# Altium integrated library NSC ADC.IntLib: 208 symbols (part 1 of 7)
Pins are listed as number, name and electrical type; pins without a type are passive.

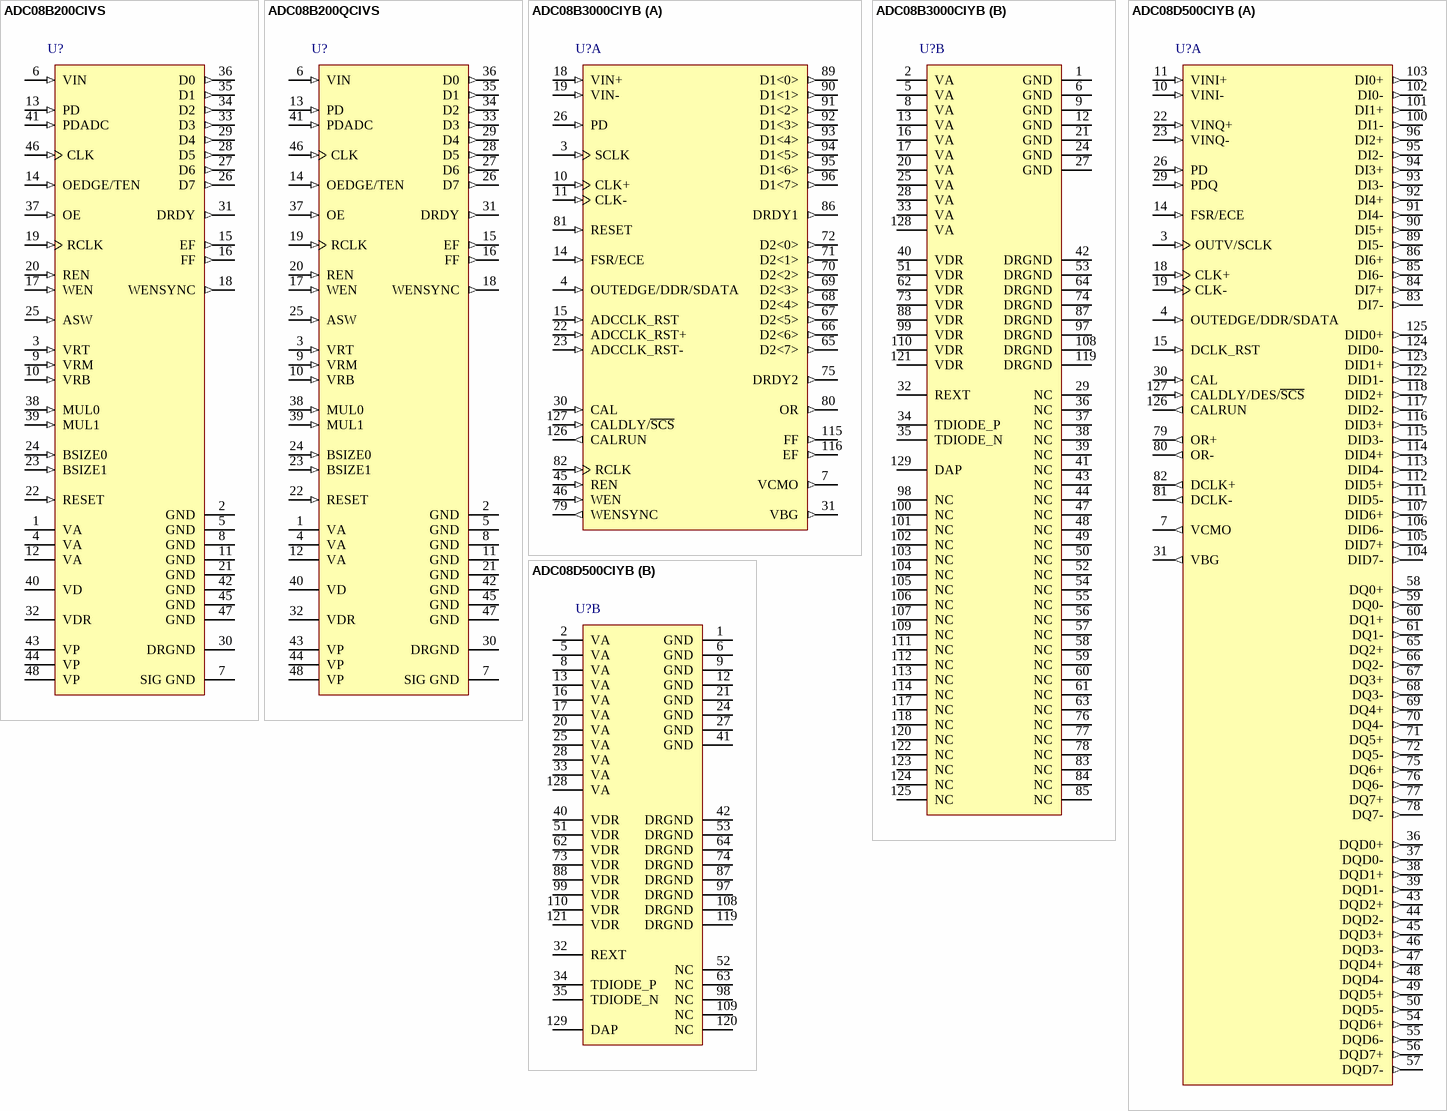
[diagram p0: symbols ADC08B200CIVS to ADC08D500CIYB]

## ADC08B200CIVS
designator U?
8-Bit, 200 MSPS A/D Converter with Capture Buffer; PartNumber: ADC08B200CIVS; Manufacturer: National Semiconductor; CompType: ADC IC; PackageTopMarking: NSUZXYTT*DC08B200*CIVS; PowerWise: N; Published: 4-Dec-2008; DatasheetVersion: May-2007; PackageVersion: revA, Apr-2000; PackageReference: VBC48A; Publisher: Altium Limited; PackageDescription: TQFP, Jedec Metric, 7 x 7 x 1mm, 48 Lead, 0.5mm Pitch; RoHS: Y; PinCount: 48; DigiKeyPartNumber: ADC08B200CIVS-ND; Code_JEDEC: MS-026-ABC; ComponentLink1Description: ADC08B200 Datasheet; ComponentLink1URL: http://www.national.com/ds/AD/ADC08B200.pdf; ComponentLink2Description: ADC08B200 Web Page; ComponentLink2URL: http://www.national.com/pf/AD/ADC08B200.html; ComponentLink3Description: VBC48A Package Page; ComponentLink3URL: http://www.national.com/packaging/folders/vbc48a.html
footprint VBC48A_N (Thin QFP, 48-Leads, Body 7x7mm, Pitch 0.5mm, IPC Medium Density)
footprint VBC48A_L (Thin QFP, 48-Leads, Body 7x7mm, Pitch 0.5mm, IPC High Density)
footprint VBC48A_M (Thin QFP, 48-Leads, Body 7x7mm, Pitch 0.5mm, IPC Low Density)
pins: 1 VA (power), 2 GND (power), 3 VRT (in), 4 VA (power), 5 GND (power), 6 VIN (in), 7 SIG GND (power), 8 GND (power), 9 VRM (in), 10 VRB (in), 11 GND (power), 12 VA (power), 13 PD (in), 14 OEDGE/TEN (in), 15 EF (out), 16 FF (out), 17 WEN (in), 18 WENSYNC (out), 19 RCLK (in), 20 REN (in), 21 GND (power), 22 RESET (in), 23 BSIZE1 (in), 24 BSIZE0 (in), 25 ASW (in), 26 D7 (out), 27 D6 (out), 28 D5 (out), 29 D4 (out), 30 DRGND (power), 31 DRDY (out), 32 VDR (power), 33 D3 (out), 34 D2 (out), 35 D1 (out), 36 D0 (out), 37 OE (in), 38 MUL0 (in), 39 MUL1 (in), 40 VD (power), 41 PDADC (in), 42 GND (power), 43 VP (power), 44 VP (power), 45 GND (power), 46 CLK (in), 47 GND (power), 48 VP (power)

## ADC08B200QCIVS
designator U?
8-Bit, 200 MSPS A/D Converter with Capture Buffer; PartNumber: ADC08B200QCIVS; Manufacturer: National Semiconductor; CompType: ADC IC; PackageTopMarking: NSUZXYTT*DC08B200*QCIVS; PowerWise: N; Published: 4-Dec-2008; DatasheetVersion: Sep-2007; PackageVersion: revA, Apr-2000; PackageReference: VBC48A; Publisher: Altium Limited; PackageDescription: TQFP, Jedec Metric, 7 x 7 x 1mm, 48 Lead, 0.5mm Pitch; RoHS: Y; PinCount: 48; Code_JEDEC: MS-026-ABC; ComponentLink1Description: ADC08B200 Datasheet; ComponentLink1URL: http://www.national.com/ds/AD/ADC08B200.pdf; ComponentLink2Description: ADC08B200 Web Page; ComponentLink2URL: http://www.national.com/pf/AD/ADC08B200.html; ComponentLink3Description: VBC48A Package Page; ComponentLink3URL: http://www.national.com/packaging/folders/vbc48a.html
footprint VBC48A_N (Thin QFP, 48-Leads, Body 7x7mm, Pitch 0.5mm, IPC Medium Density)
footprint VBC48A_L (Thin QFP, 48-Leads, Body 7x7mm, Pitch 0.5mm, IPC High Density)
footprint VBC48A_M (Thin QFP, 48-Leads, Body 7x7mm, Pitch 0.5mm, IPC Low Density)
pins: 1 VA (power), 2 GND (power), 3 VRT (in), 4 VA (power), 5 GND (power), 6 VIN (in), 7 SIG GND (power), 8 GND (power), 9 VRM (in), 10 VRB (in), 11 GND (power), 12 VA (power), 13 PD (in), 14 OEDGE/TEN (in), 15 EF (out), 16 FF (out), 17 WEN (in), 18 WENSYNC (out), 19 RCLK (in), 20 REN (in), 21 GND (power), 22 RESET (in), 23 BSIZE1 (in), 24 BSIZE0 (in), 25 ASW (in), 26 D7 (out), 27 D6 (out), 28 D5 (out), 29 D4 (out), 30 DRGND (power), 31 DRDY (out), 32 VDR (power), 33 D3 (out), 34 D2 (out), 35 D1 (out), 36 D0 (out), 37 OE (in), 38 MUL0 (in), 39 MUL1 (in), 40 VD (power), 41 PDADC (in), 42 GND (power), 43 VP (power), 44 VP (power), 45 GND (power), 46 CLK (in), 47 GND (power), 48 VP (power)

## ADC08B3000CIYB
designator U?
8-Bit, 3 GSPS, High Performance, Low Power A/D Converter with 4K Buffer; PartNumber: ADC08B3000CIYB; Manufacturer: National Semiconductor; CompType: ADC IC; PackageTopMarking: NSUZXYYTTE#*ADC08B3000*CIYB; PowerWise: Y; Published: 4-Dec-2008; DatasheetVersion: Dec-2007; PackageVersion: revB, Aug-2006; PackageReference: VNX128A; Publisher: Altium Limited; PackageDescription: LQFP, 20 x 20 x 1.4mm, 128 Lead, 0.5mm Pitch, Exposed Pad; RoHS: O; PinCount: 128; DigiKeyPartNumber: ADC08B3000CIYB-ND; Code_JEDEC: MS-026-BFB; ComponentLink1Description: ADC08B3000 Datasheet; ComponentLink1URL: http://www.national.com/ds/AD/ADC08B3000.pdf; ComponentLink2Description: ADC08B3000 Web Page; ComponentLink2URL: http://www.national.com/pf/AD/ADC08B3000.html; ComponentLink3Description: VNX128A Package Page; ComponentLink3URL: http://www.national.com/packaging/folders/vnx128a.html
footprint VNX128A_N (Thin QFP, 128-Leads, Body 20x20mm, Pitch 0.5mm, Exposed Pad, IPC Medium Density)
footprint VNX128A_L (Thin QFP, 128-Leads, Body 20x20mm, Pitch 0.5mm, Exposed Pad, IPC High Density)
footprint VNX128A_M (Thin QFP, 128-Leads, Body 20x20mm, Pitch 0.5mm, Exposed Pad, IPC Low Density)
part A pins: 3 SCLK (in), 4 OUTEDGE/DDR/SDATA (in), 7 VCMO (out), 10 CLK+ (in), 11 CLK- (in), 14 FSR/ECE (in), 15 ADCCLK_RST (in), 18 VIN+ (in), 19 VIN- (in), 22 ADCCLK_RST+ (in), 23 ADCCLK_RST- (in), 26 PD (in), 30 CAL (in), 31 VBG (out), 45 REN (in), 46 WEN (in), 65 D2<7> (out), 66 D2<6> (out), 67 D2<5> (out), 68 D2<4> (out), 69 D2<3> (out), 70 D2<2> (out), 71 D2<1> (out), 72 D2<0> (out), 75 DRDY2 (out), 79 WENSYNC (out), 80 OR (out), 81 RESET (in), 82 RCLK (in), 86 DRDY1 (out), 89 D1<0> (out), 90 D1<1> (out), 91 D1<2> (out), 92 D1<3> (out), 93 D1<4> (out), 94 D1<5> (out), 95 D1<6> (out), 96 D1<7> (out), 115 FF (out), 116 EF (out), 126 CALRUN (out), 127 CALDLY/~{SCS} (in)
part B pins: 1 GND (power), 2 VA (power), 5 VA (power), 6 GND (power), 8 VA (power), 9 GND (power), 12 GND (power), 13 VA (power), 16 VA (power), 17 VA (power), 20 VA (power), 21 GND (power), 24 GND (power), 25 VA (power), 27 GND (power), 28 VA (power), 29 NC, 32 REXT, 33 VA (power), 34 TDIODE_P, 35 TDIODE_N, 36 NC, 37 NC, 38 NC, 39 NC, 40 VDR (power), 41 NC, 42 DRGND (power), 43 NC, 44 NC, 47 NC, 48 NC, 49 NC, 50 NC, 51 VDR (power), 52 NC, 53 DRGND (power), 54 NC, 55 NC, 56 NC, 57 NC, 58 NC, 59 NC, 60 NC, 61 NC, 62 VDR (power), 63 NC, 64 DRGND (power), 73 VDR (power), 74 DRGND (power), 76 NC, 77 NC, 78 NC, 83 NC, 84 NC, 85 NC, 87 DRGND (power), 88 VDR (power), 97 DRGND (power), 98 NC, 99 VDR (power), 100 NC, 101 NC, 102 NC, 103 NC, 104 NC, 105 NC, 106 NC, 107 NC, 108 DRGND (power), 109 NC, 110 VDR (power), 111 NC, 112 NC, 113 NC, 114 NC, 117 NC, 118 NC, 119 DRGND (power), 120 NC, 121 VDR (power), 122 NC, 123 NC, 124 NC, 125 NC, 128 VA (power), 129 DAP (power)

## ADC08D500CIYB
designator U?
High Performance, Low Power, Dual 8-Bit, 500 MSPS A/D Converter; PartNumber: ADC08D500CIYB; Manufacturer: National Semiconductor; CompType: ADC IC; PackageTopMarking: NSUZXYYTTE#*ADC08D500*CIYB; PowerWise: Y; Published: 4-Dec-2008; DatasheetVersion: May-2005; PackageVersion: revB, Aug-2006; PackageReference: VNX128A; Publisher: Altium Limited; PackageDescription: LQFP, 20 x 20 x 1.4mm, 128 Lead, 0.5mm Pitch, Exposed Pad; RoHS: Y; PinCount: 128; DigiKeyPartNumber: ADC08D500CIYB-ND; Code_JEDEC: MS-026-BFB; ComponentLink1Description: ADC08D500 Datasheet; ComponentLink1URL: http://www.national.com/ds/AD/ADC08D500.pdf; ComponentLink2Description: ADC08D500 Web Page; ComponentLink2URL: http://www.national.com/pf/AD/ADC08D500.html; ComponentLink3Description: VNX128A Package Page; ComponentLink3URL: http://www.national.com/packaging/folders/vnx128a.html
footprint VNX128A_N (Thin QFP, 128-Leads, Body 20x20mm, Pitch 0.5mm, Exposed Pad, IPC Medium Density)
footprint VNX128A_L (Thin QFP, 128-Leads, Body 20x20mm, Pitch 0.5mm, Exposed Pad, IPC High Density)
footprint VNX128A_M (Thin QFP, 128-Leads, Body 20x20mm, Pitch 0.5mm, Exposed Pad, IPC Low Density)
part A pins: 3 OUTV/SCLK (in), 4 OUTEDGE/DDR/SDATA (in), 7 VCMO (out), 10 VINI- (in), 11 VINI+ (in), 14 FSR/ECE (in), 15 DCLK_RST (in), 18 CLK+ (in), 19 CLK- (in), 22 VINQ+ (in), 23 VINQ- (in), 26 PD (in), 29 PDQ (in), 30 CAL (in), 31 VBG (out), 36 DQD0+ (out), 37 DQD0- (out), 38 DQD1+ (out), 39 DQD1- (out), 43 DQD2+ (out), 44 DQD2- (out), 45 DQD3+ (out), 46 DQD3- (out), 47 DQD4+ (out), 48 DQD4- (out), 49 DQD5+ (out), 50 DQD5- (out), 54 DQD6+ (out), 55 DQD6- (out), 56 DQD7+ (out), 57 DQD7- (out), 58 DQ0+ (out), 59 DQ0- (out), 60 DQ1+ (out), 61 DQ1- (out), 65 DQ2+ (out), 66 DQ2- (out), 67 DQ3+ (out), 68 DQ3- (out), 69 DQ4+ (out), 70 DQ4- (out), 71 DQ5+ (out), 72 DQ5- (out), 75 DQ6+ (out), 76 DQ6- (out), 77 DQ7+ (out), 78 DQ7- (out), 79 OR+ (out), 80 OR- (out), 81 DCLK- (out), 82 DCLK+ (out), 83 DI7- (out), 84 DI7+ (out), 85 DI6- (out), 86 DI6+ (out), 89 DI5- (out), 90 DI5+ (out), 91 DI4- (out), 92 DI4+ (out), 93 DI3- (out), 94 DI3+ (out), 95 DI2- (out), 96 DI2+ (out), 100 DI1- (out), 101 DI1+ (out), 102 DI0- (out), 103 DI0+ (out), 104 DID7- (out), 105 DID7+ (out), 106 DID6- (out), 107 DID6+ (out), 111 DID5- (out), 112 DID5+ (out), 113 DID4- (out), 114 DID4+ (out), 115 DID3- (out), 116 DID3+ (out), 117 DID2- (out), 118 DID2+ (out), 122 DID1- (out), 123 DID1+ (out), 124 DID0- (out), 125 DID0+ (out), 126 CALRUN (out), 127 CALDLY/DES/~{SCS} (in)
part B pins: 1 GND (power), 2 VA (power), 5 VA (power), 6 GND (power), 8 VA (power), 9 GND (power), 12 GND (power), 13 VA (power), 16 VA (power), 17 VA (power), 20 VA (power), 21 GND (power), 24 GND (power), 25 VA (power), 27 GND (power), 28 VA (power), 32 REXT, 33 VA (power), 34 TDIODE_P, 35 TDIODE_N, 40 VDR (power), 41 GND (power), 42 DRGND (power), 51 VDR (power), 52 NC, 53 DRGND (power), 62 VDR (power), 63 NC, 64 DRGND (power), 73 VDR (power), 74 DRGND (power), 87 DRGND (power), 88 VDR (power), 97 DRGND (power), 98 NC, 99 VDR (power), 108 DRGND (power), 109 NC, 110 VDR (power), 119 DRGND (power), 120 NC, 121 VDR (power), 128 VA (power), 129 DAP (power)

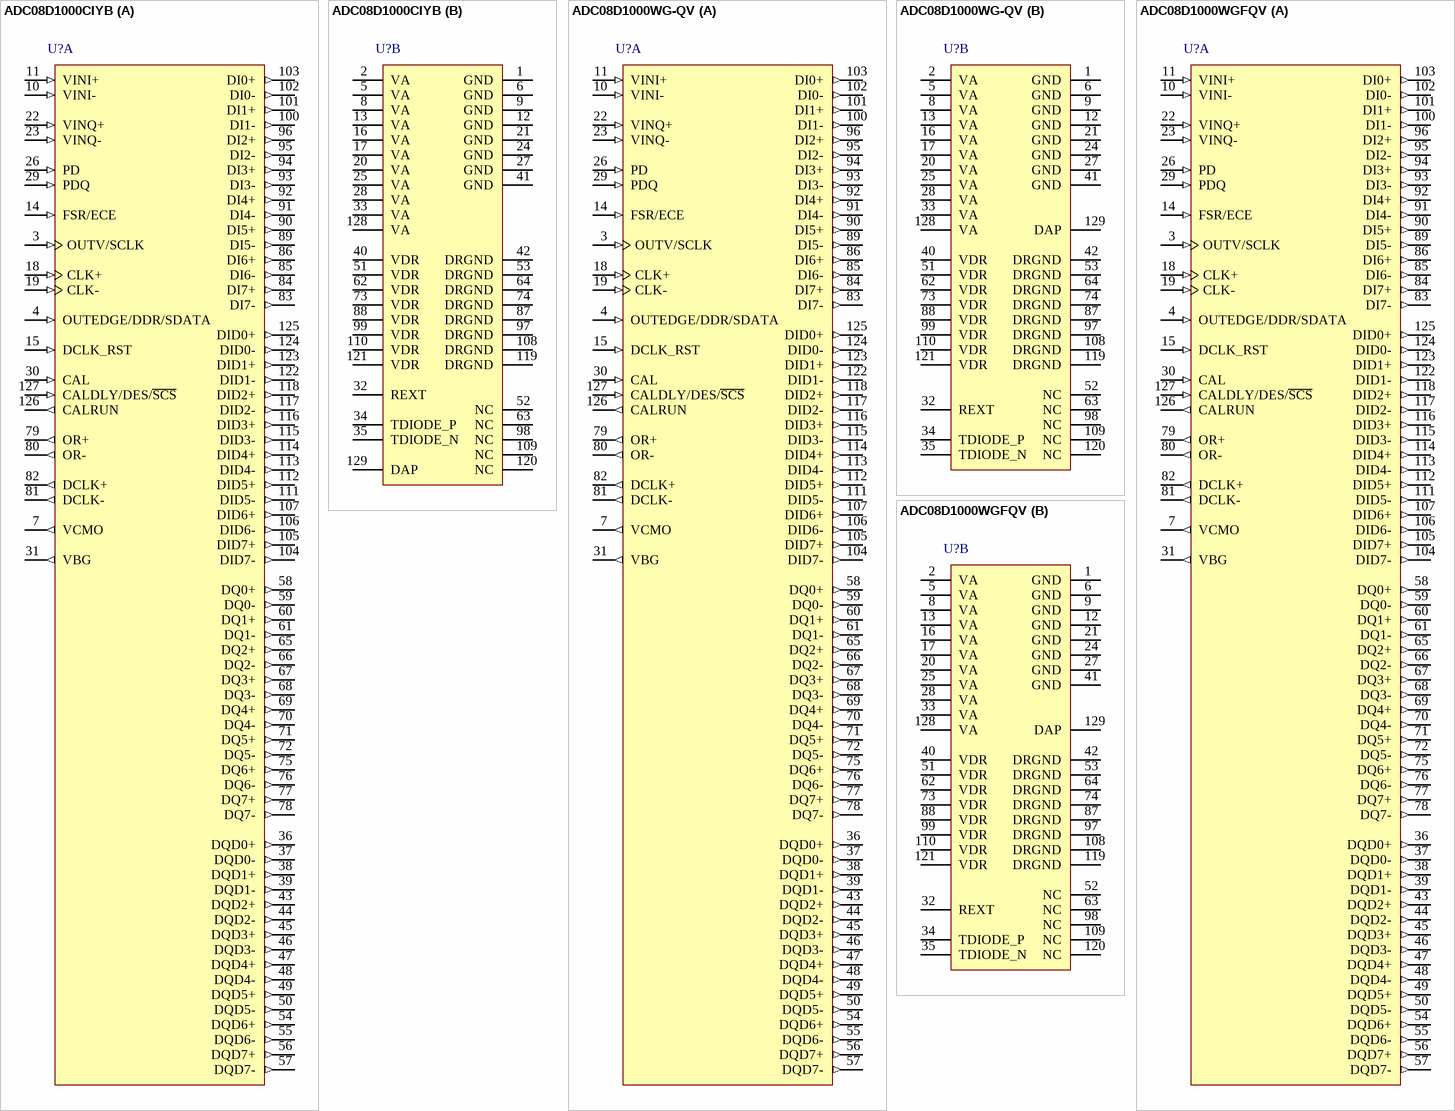
[diagram p1: symbols ADC08D1000CIYB to ADC08D1000WGFQV]

## ADC08D1000CIYB
designator U?
High Performance, Low Power, Dual 8-Bit, 1 GSPS A/D Converter; PartNumber: ADC08D1000CIYB; Manufacturer: National Semiconductor; CompType: ADC IC; PackageTopMarking: NSUZXYYTTE#*ADC08D1000*CIYB; PowerWise: Y; Published: 4-Dec-2008; DatasheetVersion: Feb-2005; PackageVersion: revB, Aug-2006; PackageReference: VNX128A; Publisher: Altium Limited; PackageDescription: LQFP, 20 x 20 x 1.4mm, 128 Lead, 0.5mm Pitch, Exposed Pad; RoHS: O; PinCount: 128; DigiKeyPartNumber: ADC08D1000CIYB-ND; Code_JEDEC: MS-026-BFB; ComponentLink1Description: ADC08D1000 Datasheet; ComponentLink1URL: http://www.national.com/ds/AD/ADC08D1000.pdf; ComponentLink2Description: ADC08D1000 Web Page; ComponentLink2URL: http://www.national.com/pf/AD/ADC08D1000.html; ComponentLink3Description: VNX128A Package Page; ComponentLink3URL: http://www.national.com/packaging/folders/vnx128a.html
footprint VNX128A_N (Thin QFP, 128-Leads, Body 20x20mm, Pitch 0.5mm, Exposed Pad, IPC Medium Density)
footprint VNX128A_L (Thin QFP, 128-Leads, Body 20x20mm, Pitch 0.5mm, Exposed Pad, IPC High Density)
footprint VNX128A_M (Thin QFP, 128-Leads, Body 20x20mm, Pitch 0.5mm, Exposed Pad, IPC Low Density)
part A pins: 3 OUTV/SCLK (in), 4 OUTEDGE/DDR/SDATA (in), 7 VCMO (out), 10 VINI- (in), 11 VINI+ (in), 14 FSR/ECE (in), 15 DCLK_RST (in), 18 CLK+ (in), 19 CLK- (in), 22 VINQ+ (in), 23 VINQ- (in), 26 PD (in), 29 PDQ (in), 30 CAL (in), 31 VBG (out), 36 DQD0+ (out), 37 DQD0- (out), 38 DQD1+ (out), 39 DQD1- (out), 43 DQD2+ (out), 44 DQD2- (out), 45 DQD3+ (out), 46 DQD3- (out), 47 DQD4+ (out), 48 DQD4- (out), 49 DQD5+ (out), 50 DQD5- (out), 54 DQD6+ (out), 55 DQD6- (out), 56 DQD7+ (out), 57 DQD7- (out), 58 DQ0+ (out), 59 DQ0- (out), 60 DQ1+ (out), 61 DQ1- (out), 65 DQ2+ (out), 66 DQ2- (out), 67 DQ3+ (out), 68 DQ3- (out), 69 DQ4+ (out), 70 DQ4- (out), 71 DQ5+ (out), 72 DQ5- (out), 75 DQ6+ (out), 76 DQ6- (out), 77 DQ7+ (out), 78 DQ7- (out), 79 OR+ (out), 80 OR- (out), 81 DCLK- (out), 82 DCLK+ (out), 83 DI7- (out), 84 DI7+ (out), 85 DI6- (out), 86 DI6+ (out), 89 DI5- (out), 90 DI5+ (out), 91 DI4- (out), 92 DI4+ (out), 93 DI3- (out), 94 DI3+ (out), 95 DI2- (out), 96 DI2+ (out), 100 DI1- (out), 101 DI1+ (out), 102 DI0- (out), 103 DI0+ (out), 104 DID7- (out), 105 DID7+ (out), 106 DID6- (out), 107 DID6+ (out), 111 DID5- (out), 112 DID5+ (out), 113 DID4- (out), 114 DID4+ (out), 115 DID3- (out), 116 DID3+ (out), 117 DID2- (out), 118 DID2+ (out), 122 DID1- (out), 123 DID1+ (out), 124 DID0- (out), 125 DID0+ (out), 126 CALRUN (out), 127 CALDLY/DES/~{SCS} (in)
part B pins: 1 GND (power), 2 VA (power), 5 VA (power), 6 GND (power), 8 VA (power), 9 GND (power), 12 GND (power), 13 VA (power), 16 VA (power), 17 VA (power), 20 VA (power), 21 GND (power), 24 GND (power), 25 VA (power), 27 GND (power), 28 VA (power), 32 REXT, 33 VA (power), 34 TDIODE_P, 35 TDIODE_N, 40 VDR (power), 41 GND (power), 42 DRGND (power), 51 VDR (power), 52 NC, 53 DRGND (power), 62 VDR (power), 63 NC, 64 DRGND (power), 73 VDR (power), 74 DRGND (power), 87 DRGND (power), 88 VDR (power), 97 DRGND (power), 98 NC, 99 VDR (power), 108 DRGND (power), 109 NC, 110 VDR (power), 119 DRGND (power), 120 NC, 121 VDR (power), 128 VA (power), 129 DAP (power)

## ADC08D1000WG-QV
designator U?
High Performance, Low Power, Dual 8-Bit, 1 GSPS A/D Converter; PartNumber: ADC08D1000WG-QV; Manufacturer: National Semiconductor; CompType: ADC IC; PackageTopMarking: NSZSSXXYYA*ADC08D1000*WG-QV 5962-*0520601VZC Q; PowerWise: N; Published: 4-Dec-2008; DatasheetVersion: Jan-2007; PackageVersion: revB, Dec-2007; PackageReference: EM128A; Publisher: Altium Limited; PackageDescription: Ceramic Quad Gullwing, .770 x .770 x .118in, 128 Lead, .020in Pitch; RoHS: N; PinCount: 128; ComponentLink1Description: ADC08D1000WG Datasheet; ComponentLink1URL: http://www.national.com/ds/AD/ADC08D1000WG-QV.pdf; ComponentLink2Description: ADC08D1000WG Web Page; ComponentLink2URL: http://www.national.com/pf/AD/ADC08D1000WG-QV.html; ComponentLink3Description: EM128A Package Page; ComponentLink3URL: http://www.national.com/packaging/folders/em128a.html
footprint EM128A_N (CQFP, 128-Leads, Body 19.6x19.6mm; Pitch 0.508mm, Gullwing Leadform, IPC Medium Density)
footprint EM128A_L (CQFP, 128-Leads, Body 19.6x19.6mm; Pitch 0.508mm, Gullwing Leadform, IPC High Density)
footprint EM128A_M (CQFP, 128-Leads, Body 19.6x19.6mm; Pitch 0.508mm, Gullwing Leadform, IPC Low Density)
part A pins: 3 OUTV/SCLK (in), 4 OUTEDGE/DDR/SDATA (in), 7 VCMO (out), 10 VINI- (in), 11 VINI+ (in), 14 FSR/ECE (in), 15 DCLK_RST (in), 18 CLK+ (in), 19 CLK- (in), 22 VINQ+ (in), 23 VINQ- (in), 26 PD (in), 29 PDQ (in), 30 CAL (in), 31 VBG (out), 36 DQD0+ (out), 37 DQD0- (out), 38 DQD1+ (out), 39 DQD1- (out), 43 DQD2+ (out), 44 DQD2- (out), 45 DQD3+ (out), 46 DQD3- (out), 47 DQD4+ (out), 48 DQD4- (out), 49 DQD5+ (out), 50 DQD5- (out), 54 DQD6+ (out), 55 DQD6- (out), 56 DQD7+ (out), 57 DQD7- (out), 58 DQ0+ (out), 59 DQ0- (out), 60 DQ1+ (out), 61 DQ1- (out), 65 DQ2+ (out), 66 DQ2- (out), 67 DQ3+ (out), 68 DQ3- (out), 69 DQ4+ (out), 70 DQ4- (out), 71 DQ5+ (out), 72 DQ5- (out), 75 DQ6+ (out), 76 DQ6- (out), 77 DQ7+ (out), 78 DQ7- (out), 79 OR+ (out), 80 OR- (out), 81 DCLK- (out), 82 DCLK+ (out), 83 DI7- (out), 84 DI7+ (out), 85 DI6- (out), 86 DI6+ (out), 89 DI5- (out), 90 DI5+ (out), 91 DI4- (out), 92 DI4+ (out), 93 DI3- (out), 94 DI3+ (out), 95 DI2- (out), 96 DI2+ (out), 100 DI1- (out), 101 DI1+ (out), 102 DI0- (out), 103 DI0+ (out), 104 DID7- (out), 105 DID7+ (out), 106 DID6- (out), 107 DID6+ (out), 111 DID5- (out), 112 DID5+ (out), 113 DID4- (out), 114 DID4+ (out), 115 DID3- (out), 116 DID3+ (out), 117 DID2- (out), 118 DID2+ (out), 122 DID1- (out), 123 DID1+ (out), 124 DID0- (out), 125 DID0+ (out), 126 CALRUN (out), 127 CALDLY/DES/~{SCS} (in)
part B pins: 1 GND (power), 2 VA (power), 5 VA (power), 6 GND (power), 8 VA (power), 9 GND (power), 12 GND (power), 13 VA (power), 16 VA (power), 17 VA (power), 20 VA (power), 21 GND (power), 24 GND (power), 25 VA (power), 27 GND (power), 28 VA (power), 32 REXT, 33 VA (power), 34 TDIODE_P, 35 TDIODE_N, 40 VDR (power), 41 GND (power), 42 DRGND (power), 51 VDR (power), 52 NC, 53 DRGND (power), 62 VDR (power), 63 NC, 64 DRGND (power), 73 VDR (power), 74 DRGND (power), 87 DRGND (power), 88 VDR (power), 97 DRGND (power), 98 NC, 99 VDR (power), 108 DRGND (power), 109 NC, 110 VDR (power), 119 DRGND (power), 120 NC, 121 VDR (power), 128 VA (power), 129 DAP (power)

## ADC08D1000WGFQV
designator U?
High Performance, Low Power, Dual 8-Bit, 1 GSPS A/D Converter; PartNumber: ADC08D1000WGFQV; Manufacturer: National Semiconductor; CompType: ADC IC; PackageTopMarking: NSZSSXXYYA*ADC08D1000*WGFQV 5962F*0520601VZC Q; PowerWise: N; Published: 4-Dec-2008; DatasheetVersion: Feb-2007; PackageVersion: revB, Dec-2007; PackageReference: EM128A; Publisher: Altium Limited; PackageDescription: Ceramic Quad Gullwing, .770 x .770 x .118in, 128 Lead, .020in Pitch; RoHS: N; PinCount: 128; ComponentLink1Description: ADC08D1000 Datasheet; ComponentLink1URL: http://www.national.com/ds/AD/ADC08D1000.pdf; ComponentLink2Description: ADC08D1000 Web Page; ComponentLink2URL: http://www.national.com/pf/AD/ADC08D1000.html; ComponentLink3Description: EM128A Package Page; ComponentLink3URL: http://www.national.com/packaging/folders/em128a.html
footprint EM128A_N (CQFP, 128-Leads, Body 19.6x19.6mm; Pitch 0.508mm, Gullwing Leadform, IPC Medium Density)
footprint EM128A_L (CQFP, 128-Leads, Body 19.6x19.6mm; Pitch 0.508mm, Gullwing Leadform, IPC High Density)
footprint EM128A_M (CQFP, 128-Leads, Body 19.6x19.6mm; Pitch 0.508mm, Gullwing Leadform, IPC Low Density)
part A pins: 3 OUTV/SCLK (in), 4 OUTEDGE/DDR/SDATA (in), 7 VCMO (out), 10 VINI- (in), 11 VINI+ (in), 14 FSR/ECE (in), 15 DCLK_RST (in), 18 CLK+ (in), 19 CLK- (in), 22 VINQ+ (in), 23 VINQ- (in), 26 PD (in), 29 PDQ (in), 30 CAL (in), 31 VBG (out), 36 DQD0+ (out), 37 DQD0- (out), 38 DQD1+ (out), 39 DQD1- (out), 43 DQD2+ (out), 44 DQD2- (out), 45 DQD3+ (out), 46 DQD3- (out), 47 DQD4+ (out), 48 DQD4- (out), 49 DQD5+ (out), 50 DQD5- (out), 54 DQD6+ (out), 55 DQD6- (out), 56 DQD7+ (out), 57 DQD7- (out), 58 DQ0+ (out), 59 DQ0- (out), 60 DQ1+ (out), 61 DQ1- (out), 65 DQ2+ (out), 66 DQ2- (out), 67 DQ3+ (out), 68 DQ3- (out), 69 DQ4+ (out), 70 DQ4- (out), 71 DQ5+ (out), 72 DQ5- (out), 75 DQ6+ (out), 76 DQ6- (out), 77 DQ7+ (out), 78 DQ7- (out), 79 OR+ (out), 80 OR- (out), 81 DCLK- (out), 82 DCLK+ (out), 83 DI7- (out), 84 DI7+ (out), 85 DI6- (out), 86 DI6+ (out), 89 DI5- (out), 90 DI5+ (out), 91 DI4- (out), 92 DI4+ (out), 93 DI3- (out), 94 DI3+ (out), 95 DI2- (out), 96 DI2+ (out), 100 DI1- (out), 101 DI1+ (out), 102 DI0- (out), 103 DI0+ (out), 104 DID7- (out), 105 DID7+ (out), 106 DID6- (out), 107 DID6+ (out), 111 DID5- (out), 112 DID5+ (out), 113 DID4- (out), 114 DID4+ (out), 115 DID3- (out), 116 DID3+ (out), 117 DID2- (out), 118 DID2+ (out), 122 DID1- (out), 123 DID1+ (out), 124 DID0- (out), 125 DID0+ (out), 126 CALRUN (out), 127 CALDLY/DES/~{SCS} (in)
part B pins: 1 GND (power), 2 VA (power), 5 VA (power), 6 GND (power), 8 VA (power), 9 GND (power), 12 GND (power), 13 VA (power), 16 VA (power), 17 VA (power), 20 VA (power), 21 GND (power), 24 GND (power), 25 VA (power), 27 GND (power), 28 VA (power), 32 REXT, 33 VA (power), 34 TDIODE_P, 35 TDIODE_N, 40 VDR (power), 41 GND (power), 42 DRGND (power), 51 VDR (power), 52 NC, 53 DRGND (power), 62 VDR (power), 63 NC, 64 DRGND (power), 73 VDR (power), 74 DRGND (power), 87 DRGND (power), 88 VDR (power), 97 DRGND (power), 98 NC, 99 VDR (power), 108 DRGND (power), 109 NC, 110 VDR (power), 119 DRGND (power), 120 NC, 121 VDR (power), 128 VA (power), 129 DAP (power)

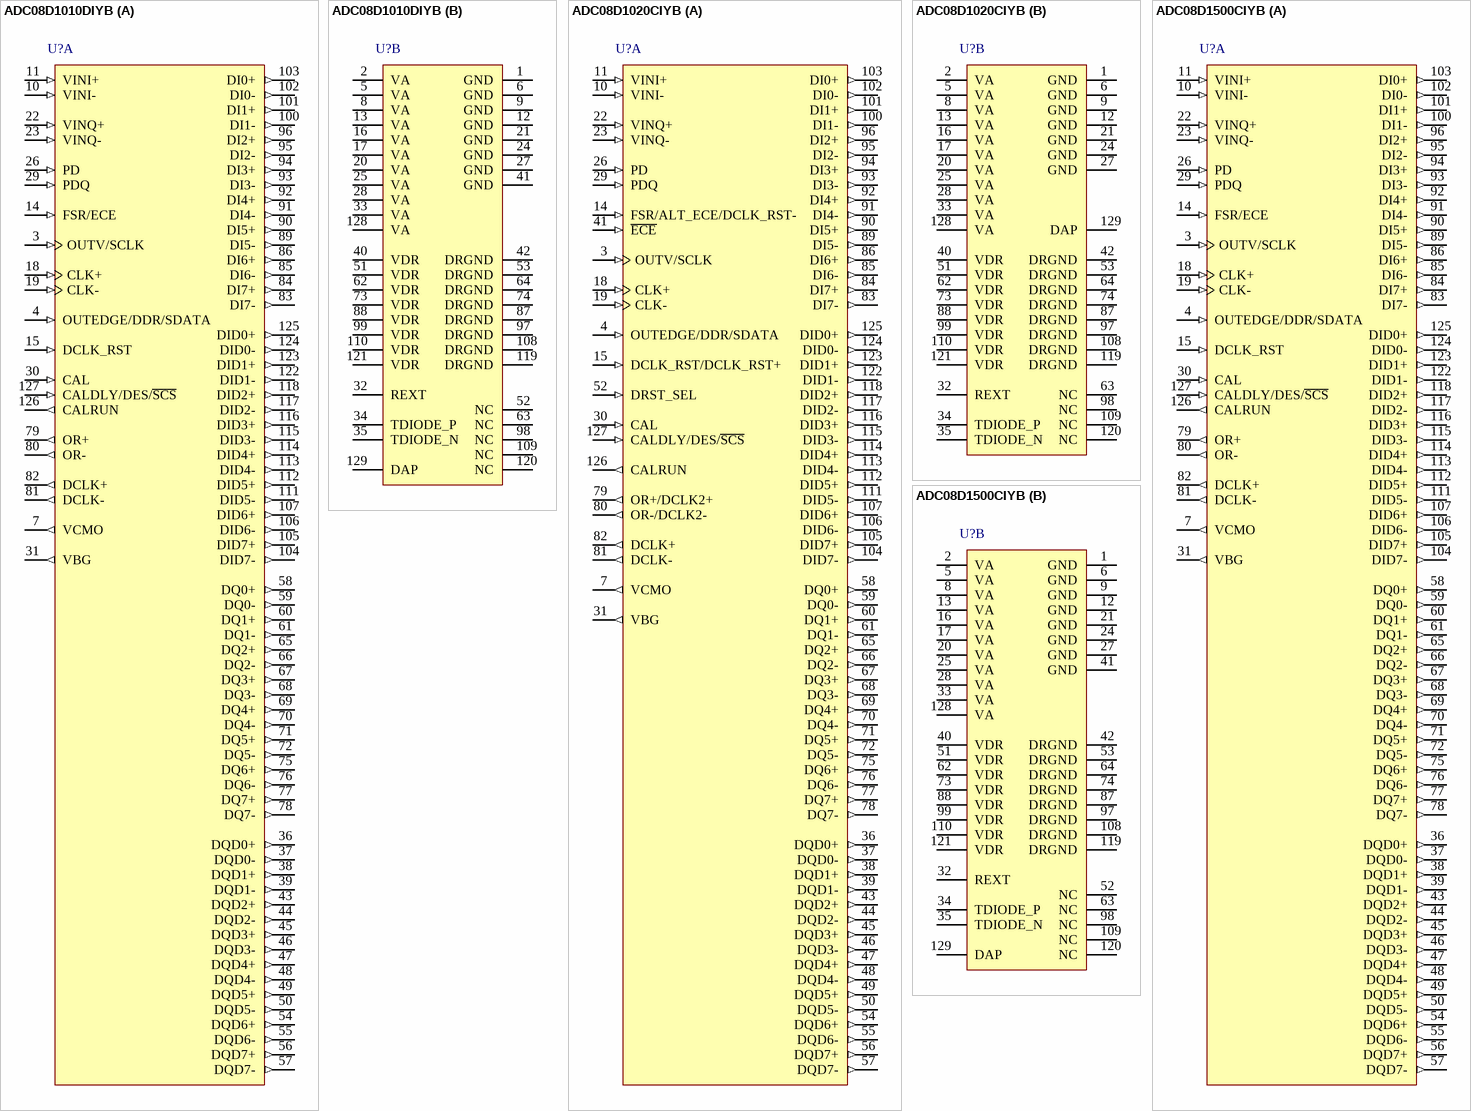
[diagram p2: symbols ADC08D1010DIYB to ADC08D1500CIYB]

## ADC08D1010DIYB
designator U?
High Performance, Low Power, Dual 8-Bit, 1 GSPS A/D Converter; PartNumber: ADC08D1010DIYB; Manufacturer: National Semiconductor; CompType: ADC IC; PackageTopMarking: NSUZXYYTTE#*ADC08D1010*DIYB; Published: 4-Dec-2008; DatasheetVersion: Aug-2008; PackageVersion: revB, Aug-2006; PackageReference: VNX128A; Publisher: Altium Limited; PackageDescription: LQFP, 20 x 20 x 1.4mm, 128 Lead, 0.5mm Pitch, Exposed Pad; RoHS: Y; PinCount: 128; Code_JEDEC: MS-026-BFB; ComponentLink1Description: ADC08D1010 Datasheet; ComponentLink1URL: http://www.national.com/ds/AD/ADC08D1010.pdf; ComponentLink2Description: ADC08D1010 Web Page; ComponentLink2URL: http://www.national.com/pf/AD/ADC08D1010.html; ComponentLink3Description: VNX128A Package Drawing; ComponentLink3URL: http://www.national.com/packaging/folders/vnx128a.html
footprint VNX128A_N (Thin QFP, 128-Leads, Body 20x20mm, Pitch 0.5mm, Exposed Pad, IPC Medium Density)
footprint VNX128A_L (Thin QFP, 128-Leads, Body 20x20mm, Pitch 0.5mm, Exposed Pad, IPC High Density)
footprint VNX128A_M (Thin QFP, 128-Leads, Body 20x20mm, Pitch 0.5mm, Exposed Pad, IPC Low Density)
part A pins: 3 OUTV/SCLK (in), 4 OUTEDGE/DDR/SDATA (in), 7 VCMO (out), 10 VINI- (in), 11 VINI+ (in), 14 FSR/ECE (in), 15 DCLK_RST (in), 18 CLK+ (in), 19 CLK- (in), 22 VINQ+ (in), 23 VINQ- (in), 26 PD (in), 29 PDQ (in), 30 CAL (in), 31 VBG (out), 36 DQD0+ (out), 37 DQD0- (out), 38 DQD1+ (out), 39 DQD1- (out), 43 DQD2+ (out), 44 DQD2- (out), 45 DQD3+ (out), 46 DQD3- (out), 47 DQD4+ (out), 48 DQD4- (out), 49 DQD5+ (out), 50 DQD5- (out), 54 DQD6+ (out), 55 DQD6- (out), 56 DQD7+ (out), 57 DQD7- (out), 58 DQ0+ (out), 59 DQ0- (out), 60 DQ1+ (out), 61 DQ1- (out), 65 DQ2+ (out), 66 DQ2- (out), 67 DQ3+ (out), 68 DQ3- (out), 69 DQ4+ (out), 70 DQ4- (out), 71 DQ5+ (out), 72 DQ5- (out), 75 DQ6+ (out), 76 DQ6- (out), 77 DQ7+ (out), 78 DQ7- (out), 79 OR+ (out), 80 OR- (out), 81 DCLK- (out), 82 DCLK+ (out), 83 DI7- (out), 84 DI7+ (out), 85 DI6- (out), 86 DI6+ (out), 89 DI5- (out), 90 DI5+ (out), 91 DI4- (out), 92 DI4+ (out), 93 DI3- (out), 94 DI3+ (out), 95 DI2- (out), 96 DI2+ (out), 100 DI1- (out), 101 DI1+ (out), 102 DI0- (out), 103 DI0+ (out), 104 DID7- (out), 105 DID7+ (out), 106 DID6- (out), 107 DID6+ (out), 111 DID5- (out), 112 DID5+ (out), 113 DID4- (out), 114 DID4+ (out), 115 DID3- (out), 116 DID3+ (out), 117 DID2- (out), 118 DID2+ (out), 122 DID1- (out), 123 DID1+ (out), 124 DID0- (out), 125 DID0+ (out), 126 CALRUN (out), 127 CALDLY/DES/~{SCS} (in)
part B pins: 1 GND (power), 2 VA (power), 5 VA (power), 6 GND (power), 8 VA (power), 9 GND (power), 12 GND (power), 13 VA (power), 16 VA (power), 17 VA (power), 20 VA (power), 21 GND (power), 24 GND (power), 25 VA (power), 27 GND (power), 28 VA (power), 32 REXT, 33 VA (power), 34 TDIODE_P, 35 TDIODE_N, 40 VDR (power), 41 GND (power), 42 DRGND (power), 51 VDR (power), 52 NC, 53 DRGND (power), 62 VDR (power), 63 NC, 64 DRGND (power), 73 VDR (power), 74 DRGND (power), 87 DRGND (power), 88 VDR (power), 97 DRGND (power), 98 NC, 99 VDR (power), 108 DRGND (power), 109 NC, 110 VDR (power), 119 DRGND (power), 120 NC, 121 VDR (power), 128 VA (power), 129 DAP (power)

## ADC08D1020CIYB
designator U?
Low Power, Dual 8-Bit, 1.0 GSPS A/D Converter; PartNumber: ADC08D1020CIYB; Manufacturer: National Semiconductor; CompType: ADC IC; PackageTopMarking: NSUZXYYTTE#*ADC08D1020*CIYB; PowerWise: Y; Published: 4-Dec-2008; DatasheetVersion: Nov-2007; PackageVersion: revB, Aug-2006; PackageReference: VNX128A; Publisher: Altium Limited; PackageDescription: LQFP, 20 x 20 x 1.4mm, 128 Lead, 0.5mm Pitch, Exposed Pad; RoHS: O; PinCount: 128; DigiKeyPartNumber: ADC08D1020CIYB-ND; Code_JEDEC: MS-026-BFB; ComponentLink1Description: ADC08D1020 Datasheet; ComponentLink1URL: http://www.national.com/ds/AD/ADC08D1020.pdf; ComponentLink2Description: ADC08D1020 Web Page; ComponentLink2URL: http://www.national.com/pf/AD/ADC08D1020.html; ComponentLink3Description: VNX128A Package Page; ComponentLink3URL: http://www.national.com/packaging/folders/vnx128a.html
footprint VNX128A_N (Thin QFP, 128-Leads, Body 20x20mm, Pitch 0.5mm, Exposed Pad, IPC Medium Density)
footprint VNX128A_L (Thin QFP, 128-Leads, Body 20x20mm, Pitch 0.5mm, Exposed Pad, IPC High Density)
footprint VNX128A_M (Thin QFP, 128-Leads, Body 20x20mm, Pitch 0.5mm, Exposed Pad, IPC Low Density)
part A pins: 3 OUTV/SCLK (in), 4 OUTEDGE/DDR/SDATA (in), 7 VCMO (out), 10 VINI- (in), 11 VINI+ (in), 14 FSR/ALT_ECE/DCLK_RST- (in), 15 DCLK_RST/DCLK_RST+ (in), 18 CLK+ (in), 19 CLK- (in), 22 VINQ+ (in), 23 VINQ- (in), 26 PD (in), 29 PDQ (in), 30 CAL (in), 31 VBG (out), 36 DQD0+ (out), 37 DQD0- (out), 38 DQD1+ (out), 39 DQD1- (out), 41 ~{ECE} (in), 43 DQD2+ (out), 44 DQD2- (out), 45 DQD3+ (out), 46 DQD3- (out), 47 DQD4+ (out), 48 DQD4- (out), 49 DQD5+ (out), 50 DQD5- (out), 52 DRST_SEL (in), 54 DQD6+ (out), 55 DQD6- (out), 56 DQD7+ (out), 57 DQD7- (out), 58 DQ0+ (out), 59 DQ0- (out), 60 DQ1+ (out), 61 DQ1- (out), 65 DQ2+ (out), 66 DQ2- (out), 67 DQ3+ (out), 68 DQ3- (out), 69 DQ4+ (out), 70 DQ4- (out), 71 DQ5+ (out), 72 DQ5- (out), 75 DQ6+ (out), 76 DQ6- (out), 77 DQ7+ (out), 78 DQ7- (out), 79 OR+/DCLK2+ (out), 80 OR-/DCLK2- (out), 81 DCLK- (out), 82 DCLK+ (out), 83 DI7- (out), 84 DI7+ (out), 85 DI6- (out), 86 DI6+ (out), 89 DI5- (out), 90 DI5+ (out), 91 DI4- (out), 92 DI4+ (out), 93 DI3- (out), 94 DI3+ (out), 95 DI2- (out), 96 DI2+ (out), 100 DI1- (out), 101 DI1+ (out), 102 DI0- (out), 103 DI0+ (out), 104 DID7- (out), 105 DID7+ (out), 106 DID6- (out), 107 DID6+ (out), 111 DID5- (out), 112 DID5+ (out), 113 DID4- (out), 114 DID4+ (out), 115 DID3- (out), 116 DID3+ (out), 117 DID2- (out), 118 DID2+ (out), 122 DID1- (out), 123 DID1+ (out), 124 DID0- (out), 125 DID0+ (out), 126 CALRUN (out), 127 CALDLY/DES/~{SCS} (in)
part B pins: 1 GND (power), 2 VA (power), 5 VA (power), 6 GND (power), 8 VA (power), 9 GND (power), 12 GND (power), 13 VA (power), 16 VA (power), 17 VA (power), 20 VA (power), 21 GND (power), 24 GND (power), 25 VA (power), 27 GND (power), 28 VA (power), 32 REXT, 33 VA (power), 34 TDIODE_P, 35 TDIODE_N, 40 VDR (power), 42 DRGND (power), 51 VDR (power), 53 DRGND (power), 62 VDR (power), 63 NC, 64 DRGND (power), 73 VDR (power), 74 DRGND (power), 87 DRGND (power), 88 VDR (power), 97 DRGND (power), 98 NC, 99 VDR (power), 108 DRGND (power), 109 NC, 110 VDR (power), 119 DRGND (power), 120 NC, 121 VDR (power), 128 VA (power), 129 DAP (power)

## ADC08D1500CIYB
designator U?
High Performance, Low Power, Dual 8-Bit, 1.5 GSPS A/D Converter; PartNumber: ADC08D1500CIYB; Manufacturer: National Semiconductor; CompType: ADC IC; PackageTopMarking: NSUZXYYTTE#*ADC08D1500*CIYB; PowerWise: Y; Published: 4-Dec-2008; DatasheetVersion: Apr-2008; PackageVersion: revB, Aug-2006; PackageReference: VNX128A; Publisher: Altium Limited; PackageDescription: LQFP, 20 x 20 x 1.4mm, 128 Lead, 0.5mm Pitch, Exposed Pad; RoHS: O; PinCount: 128; DigiKeyPartNumber: ADC08D1500CIYB-ND; Code_JEDEC: MS-026-BFB; ComponentLink1Description: ADC08D1500 Datasheet; ComponentLink1URL: http://www.national.com/ds/AD/ADC08D1500.pdf; ComponentLink2Description: ADC08D1500 Web Page; ComponentLink2URL: http://www.national.com/pf/AD/ADC08D1500.html; ComponentLink3Description: VNX128A Package Page; ComponentLink3URL: http://www.national.com/packaging/folders/vnx128a.html
footprint VNX128A_N (Thin QFP, 128-Leads, Body 20x20mm, Pitch 0.5mm, Exposed Pad, IPC Medium Density)
footprint VNX128A_L (Thin QFP, 128-Leads, Body 20x20mm, Pitch 0.5mm, Exposed Pad, IPC High Density)
footprint VNX128A_M (Thin QFP, 128-Leads, Body 20x20mm, Pitch 0.5mm, Exposed Pad, IPC Low Density)
part A pins: 3 OUTV/SCLK (in), 4 OUTEDGE/DDR/SDATA (in), 7 VCMO (out), 10 VINI- (in), 11 VINI+ (in), 14 FSR/ECE (in), 15 DCLK_RST (in), 18 CLK+ (in), 19 CLK- (in), 22 VINQ+ (in), 23 VINQ- (in), 26 PD (in), 29 PDQ (in), 30 CAL (in), 31 VBG (out), 36 DQD0+ (out), 37 DQD0- (out), 38 DQD1+ (out), 39 DQD1- (out), 43 DQD2+ (out), 44 DQD2- (out), 45 DQD3+ (out), 46 DQD3- (out), 47 DQD4+ (out), 48 DQD4- (out), 49 DQD5+ (out), 50 DQD5- (out), 54 DQD6+ (out), 55 DQD6- (out), 56 DQD7+ (out), 57 DQD7- (out), 58 DQ0+ (out), 59 DQ0- (out), 60 DQ1+ (out), 61 DQ1- (out), 65 DQ2+ (out), 66 DQ2- (out), 67 DQ3+ (out), 68 DQ3- (out), 69 DQ4+ (out), 70 DQ4- (out), 71 DQ5+ (out), 72 DQ5- (out), 75 DQ6+ (out), 76 DQ6- (out), 77 DQ7+ (out), 78 DQ7- (out), 79 OR+ (out), 80 OR- (out), 81 DCLK- (out), 82 DCLK+ (out), 83 DI7- (out), 84 DI7+ (out), 85 DI6- (out), 86 DI6+ (out), 89 DI5- (out), 90 DI5+ (out), 91 DI4- (out), 92 DI4+ (out), 93 DI3- (out), 94 DI3+ (out), 95 DI2- (out), 96 DI2+ (out), 100 DI1- (out), 101 DI1+ (out), 102 DI0- (out), 103 DI0+ (out), 104 DID7- (out), 105 DID7+ (out), 106 DID6- (out), 107 DID6+ (out), 111 DID5- (out), 112 DID5+ (out), 113 DID4- (out), 114 DID4+ (out), 115 DID3- (out), 116 DID3+ (out), 117 DID2- (out), 118 DID2+ (out), 122 DID1- (out), 123 DID1+ (out), 124 DID0- (out), 125 DID0+ (out), 126 CALRUN (out), 127 CALDLY/DES/~{SCS} (in)
part B pins: 1 GND (power), 2 VA (power), 5 VA (power), 6 GND (power), 8 VA (power), 9 GND (power), 12 GND (power), 13 VA (power), 16 VA (power), 17 VA (power), 20 VA (power), 21 GND (power), 24 GND (power), 25 VA (power), 27 GND (power), 28 VA (power), 32 REXT, 33 VA (power), 34 TDIODE_P, 35 TDIODE_N, 40 VDR (power), 41 GND (power), 42 DRGND (power), 51 VDR (power), 52 NC, 53 DRGND (power), 62 VDR (power), 63 NC, 64 DRGND (power), 73 VDR (power), 74 DRGND (power), 87 DRGND (power), 88 VDR (power), 97 DRGND (power), 98 NC, 99 VDR (power), 108 DRGND (power), 109 NC, 110 VDR (power), 119 DRGND (power), 120 NC, 121 VDR (power), 128 VA (power), 129 DAP (power)

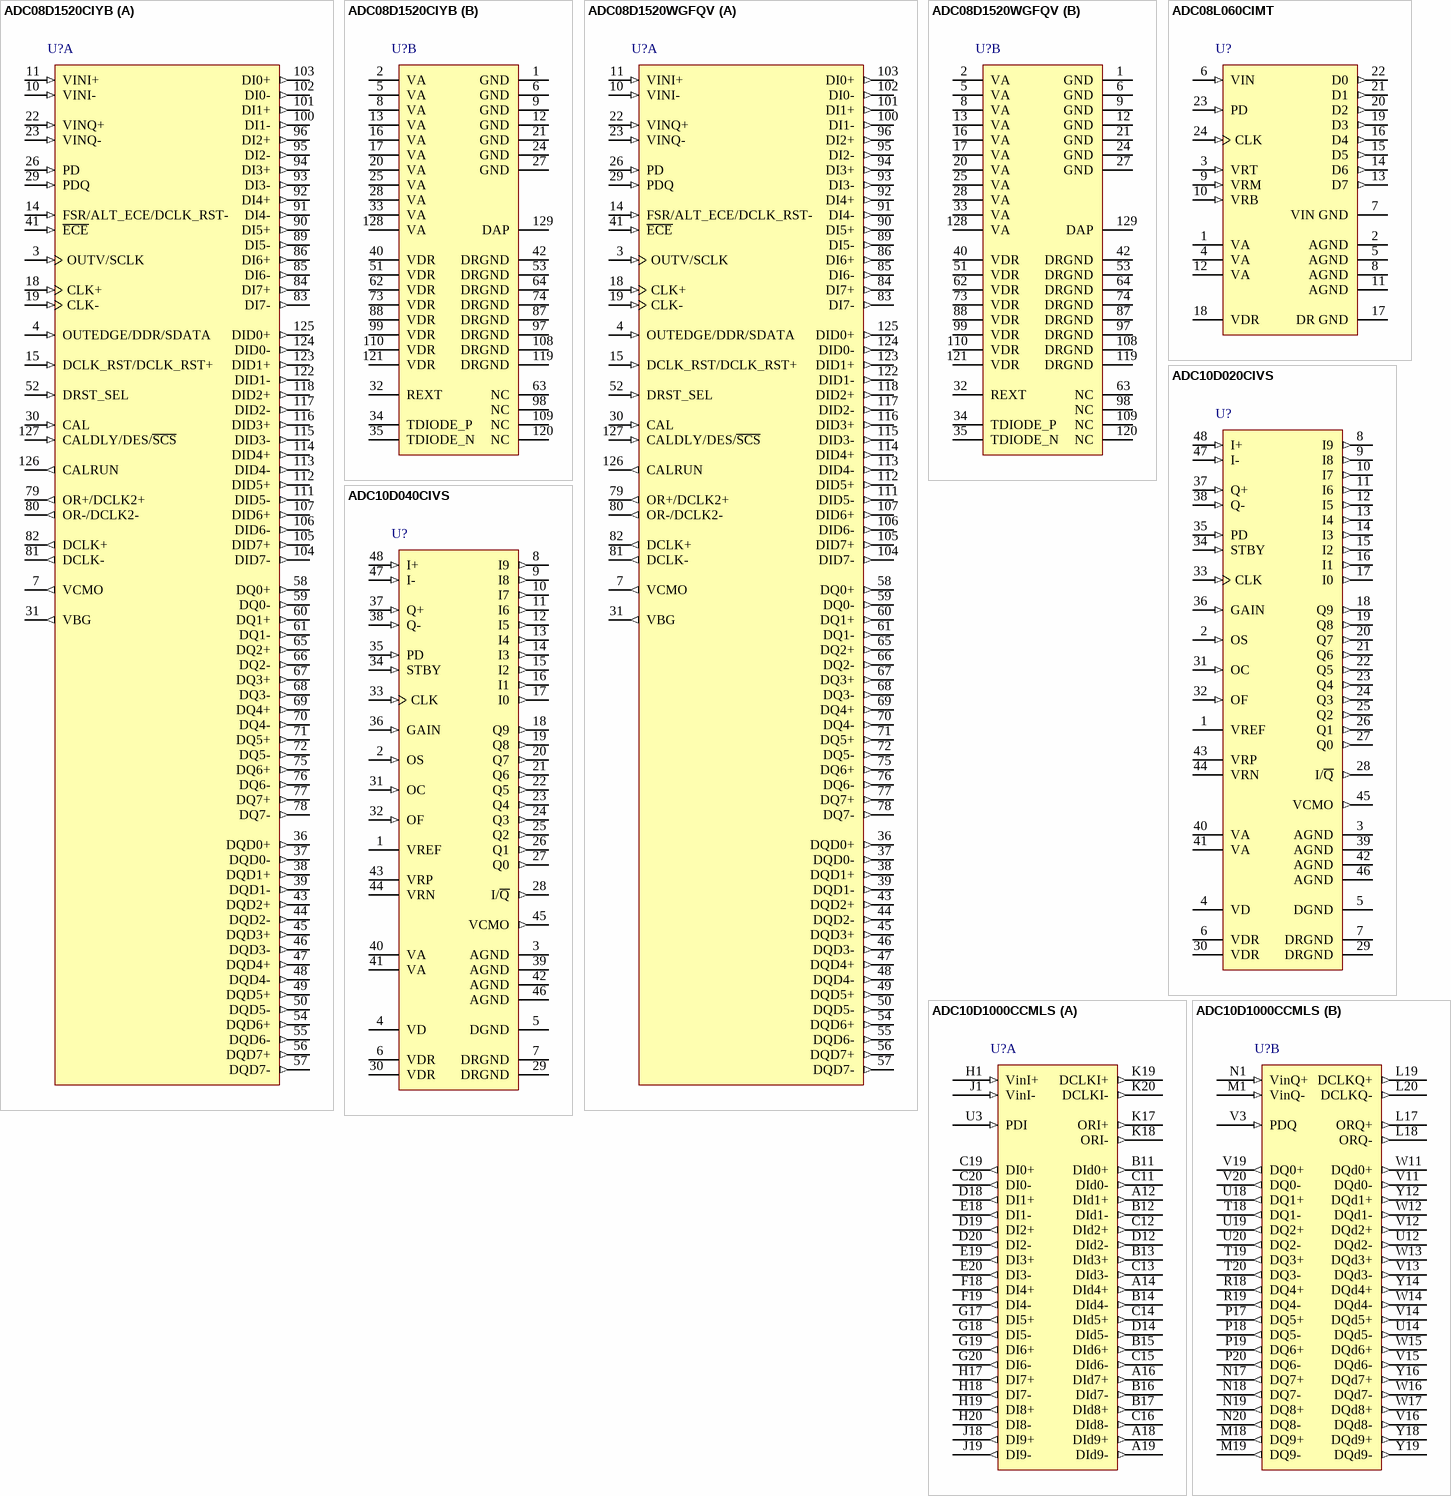
[diagram p3: symbols ADC08D1520CIYB to ADC10D1000CCMLS]

## ADC08D1520CIYB
designator U?
Low Power, 8-Bit, Dual 1.5 GSPS or Single 3.0 GSPS A/D Converter; PartNumber: ADC08D1520CIYB; Manufacturer: National Semiconductor; CompType: ADC IC; PackageTopMarking: NSUZXYYTTE#*ADC08D1520*CIYB; PowerWise: Y; Published: 4-Dec-2008; DatasheetVersion: Apr-2008; PackageVersion: revB, Aug-2006; PackageReference: VNX128A; Publisher: Altium Limited; PackageDescription: LQFP, 20 x 20 x 1.4mm, 128 Lead, 0.5mm Pitch, Exposed Pad; RoHS: O; PinCount: 128; DigiKeyPartNumber: ADC08D1520CIYB-ND; Code_JEDEC: MS-026-BFB; ComponentLink1Description: ADC08D1520 Datasheet; ComponentLink1URL: http://www.national.com/ds/AD/ADC08D1520.pdf; ComponentLink2Description: ADC08D1520 Web Page; ComponentLink2URL: http://www.national.com/pf/AD/ADC08D1520.html; ComponentLink3Description: VNX128A Package Page; ComponentLink3URL: http://www.national.com/packaging/folders/vnx128a.html
footprint VNX128A_N (Thin QFP, 128-Leads, Body 20x20mm, Pitch 0.5mm, Exposed Pad, IPC Medium Density)
footprint VNX128A_L (Thin QFP, 128-Leads, Body 20x20mm, Pitch 0.5mm, Exposed Pad, IPC High Density)
footprint VNX128A_M (Thin QFP, 128-Leads, Body 20x20mm, Pitch 0.5mm, Exposed Pad, IPC Low Density)
part A pins: 3 OUTV/SCLK (in), 4 OUTEDGE/DDR/SDATA (in), 7 VCMO (out), 10 VINI- (in), 11 VINI+ (in), 14 FSR/ALT_ECE/DCLK_RST- (in), 15 DCLK_RST/DCLK_RST+ (in), 18 CLK+ (in), 19 CLK- (in), 22 VINQ+ (in), 23 VINQ- (in), 26 PD (in), 29 PDQ (in), 30 CAL (in), 31 VBG (out), 36 DQD0+ (out), 37 DQD0- (out), 38 DQD1+ (out), 39 DQD1- (out), 41 ~{ECE} (in), 43 DQD2+ (out), 44 DQD2- (out), 45 DQD3+ (out), 46 DQD3- (out), 47 DQD4+ (out), 48 DQD4- (out), 49 DQD5+ (out), 50 DQD5- (out), 52 DRST_SEL (in), 54 DQD6+ (out), 55 DQD6- (out), 56 DQD7+ (out), 57 DQD7- (out), 58 DQ0+ (out), 59 DQ0- (out), 60 DQ1+ (out), 61 DQ1- (out), 65 DQ2+ (out), 66 DQ2- (out), 67 DQ3+ (out), 68 DQ3- (out), 69 DQ4+ (out), 70 DQ4- (out), 71 DQ5+ (out), 72 DQ5- (out), 75 DQ6+ (out), 76 DQ6- (out), 77 DQ7+ (out), 78 DQ7- (out), 79 OR+/DCLK2+ (out), 80 OR-/DCLK2- (out), 81 DCLK- (out), 82 DCLK+ (out), 83 DI7- (out), 84 DI7+ (out), 85 DI6- (out), 86 DI6+ (out), 89 DI5- (out), 90 DI5+ (out), 91 DI4- (out), 92 DI4+ (out), 93 DI3- (out), 94 DI3+ (out), 95 DI2- (out), 96 DI2+ (out), 100 DI1- (out), 101 DI1+ (out), 102 DI0- (out), 103 DI0+ (out), 104 DID7- (out), 105 DID7+ (out), 106 DID6- (out), 107 DID6+ (out), 111 DID5- (out), 112 DID5+ (out), 113 DID4- (out), 114 DID4+ (out), 115 DID3- (out), 116 DID3+ (out), 117 DID2- (out), 118 DID2+ (out), 122 DID1- (out), 123 DID1+ (out), 124 DID0- (out), 125 DID0+ (out), 126 CALRUN (out), 127 CALDLY/DES/~{SCS} (in)
part B pins: 1 GND (power), 2 VA (power), 5 VA (power), 6 GND (power), 8 VA (power), 9 GND (power), 12 GND (power), 13 VA (power), 16 VA (power), 17 VA (power), 20 VA (power), 21 GND (power), 24 GND (power), 25 VA (power), 27 GND (power), 28 VA (power), 32 REXT, 33 VA (power), 34 TDIODE_P, 35 TDIODE_N, 40 VDR (power), 42 DRGND (power), 51 VDR (power), 53 DRGND (power), 62 VDR (power), 63 NC, 64 DRGND (power), 73 VDR (power), 74 DRGND (power), 87 DRGND (power), 88 VDR (power), 97 DRGND (power), 98 NC, 99 VDR (power), 108 DRGND (power), 109 NC, 110 VDR (power), 119 DRGND (power), 120 NC, 121 VDR (power), 128 VA (power), 129 DAP (power)

## ADC08D1520WGFQV
designator U?
Low Power, 8-Bit, Dual 1.5 GSPS or Single 3.0 GSPS A/D Converter; PartNumber: ADC08D1520WGFQV; Manufacturer: National Semiconductor; CompType: ADC IC; PackageTopMarking: NSZSSXXYYA*ADC08D1520*WGFQV 5962F*0721401VZC Q; PowerWise: N; Published: 4-Dec-2008; DatasheetVersion: Apr-2008; PackageVersion: revB, Dec-2007; PackageReference: EM128A; Publisher: Altium Limited; PackageDescription: Ceramic Quad Gullwing, .770 x .770 x .118in, 128 Lead, .020in Pitch; RoHS: N; PinCount: 128; ComponentLink1Description: ADC08D1520 Datasheet; ComponentLink1URL: http://www.national.com/ds/AD/ADC08D1520.pdf; ComponentLink2Description: ADC08D1520 Web Page; ComponentLink2URL: http://www.national.com/pf/AD/ADC08D1520.html; ComponentLink3Description: EM128A Package Drawing; ComponentLink3URL: http://www.national.com/packaging/folders/em128a.html
footprint EM128A_N (CQFP, 128-Leads, Body 19.6x19.6mm; Pitch 0.508mm, Gullwing Leadform, IPC Medium Density)
footprint EM128A_L (CQFP, 128-Leads, Body 19.6x19.6mm; Pitch 0.508mm, Gullwing Leadform, IPC High Density)
footprint EM128A_M (CQFP, 128-Leads, Body 19.6x19.6mm; Pitch 0.508mm, Gullwing Leadform, IPC Low Density)
part A pins: 3 OUTV/SCLK (in), 4 OUTEDGE/DDR/SDATA (in), 7 VCMO (out), 10 VINI- (in), 11 VINI+ (in), 14 FSR/ALT_ECE/DCLK_RST- (in), 15 DCLK_RST/DCLK_RST+ (in), 18 CLK+ (in), 19 CLK- (in), 22 VINQ+ (in), 23 VINQ- (in), 26 PD (in), 29 PDQ (in), 30 CAL (in), 31 VBG (out), 36 DQD0+ (out), 37 DQD0- (out), 38 DQD1+ (out), 39 DQD1- (out), 41 ~{ECE} (in), 43 DQD2+ (out), 44 DQD2- (out), 45 DQD3+ (out), 46 DQD3- (out), 47 DQD4+ (out), 48 DQD4- (out), 49 DQD5+ (out), 50 DQD5- (out), 52 DRST_SEL (in), 54 DQD6+ (out), 55 DQD6- (out), 56 DQD7+ (out), 57 DQD7- (out), 58 DQ0+ (out), 59 DQ0- (out), 60 DQ1+ (out), 61 DQ1- (out), 65 DQ2+ (out), 66 DQ2- (out), 67 DQ3+ (out), 68 DQ3- (out), 69 DQ4+ (out), 70 DQ4- (out), 71 DQ5+ (out), 72 DQ5- (out), 75 DQ6+ (out), 76 DQ6- (out), 77 DQ7+ (out), 78 DQ7- (out), 79 OR+/DCLK2+ (out), 80 OR-/DCLK2- (out), 81 DCLK- (out), 82 DCLK+ (out), 83 DI7- (out), 84 DI7+ (out), 85 DI6- (out), 86 DI6+ (out), 89 DI5- (out), 90 DI5+ (out), 91 DI4- (out), 92 DI4+ (out), 93 DI3- (out), 94 DI3+ (out), 95 DI2- (out), 96 DI2+ (out), 100 DI1- (out), 101 DI1+ (out), 102 DI0- (out), 103 DI0+ (out), 104 DID7- (out), 105 DID7+ (out), 106 DID6- (out), 107 DID6+ (out), 111 DID5- (out), 112 DID5+ (out), 113 DID4- (out), 114 DID4+ (out), 115 DID3- (out), 116 DID3+ (out), 117 DID2- (out), 118 DID2+ (out), 122 DID1- (out), 123 DID1+ (out), 124 DID0- (out), 125 DID0+ (out), 126 CALRUN (out), 127 CALDLY/DES/~{SCS} (in)
part B pins: 1 GND (power), 2 VA (power), 5 VA (power), 6 GND (power), 8 VA (power), 9 GND (power), 12 GND (power), 13 VA (power), 16 VA (power), 17 VA (power), 20 VA (power), 21 GND (power), 24 GND (power), 25 VA (power), 27 GND (power), 28 VA (power), 32 REXT, 33 VA (power), 34 TDIODE_P, 35 TDIODE_N, 40 VDR (power), 42 DRGND (power), 51 VDR (power), 53 DRGND (power), 62 VDR (power), 63 NC, 64 DRGND (power), 73 VDR (power), 74 DRGND (power), 87 DRGND (power), 88 VDR (power), 97 DRGND (power), 98 NC, 99 VDR (power), 108 DRGND (power), 109 NC, 110 VDR (power), 119 DRGND (power), 120 NC, 121 VDR (power), 128 VA (power), 129 DAP (power)

## ADC08L060CIMT
designator U?
8-Bit, 10 MSPS to 60 MSPS, 0.65 mW/MSPS A/D Converter with Internal Sample-and-Hold; PartNumber: ADC08L060CIMT; Manufacturer: National Semiconductor; CompType: ADC IC; PackageTopMarking: NSUZXYTT*ADC08L060*CIMT; PowerWise: N; Published: 4-Dec-2008; DatasheetVersion: May-2002; PackageVersion: revE, Mar-2003; PackageReference: MTC24; Publisher: Altium Limited; PackageDescription: Molded TSSOP, Jedec, 7.8 x 4.4 x 0.9mm Body, 24 Lead, 0.65mm Pitch; RoHS: Y; PinCount: 24; DigiKeyPartNumber: ADC08L060CIMT-ND; Code_JEDEC: MO-153-AD; ComponentLink1Description: ADC08L060 Datasheet; ComponentLink1URL: http://www.national.com/ds/AD/ADC08L060.pdf; ComponentLink2Description: ADC08L060 Web Page; ComponentLink2URL: http://www.national.com/pf/AD/ADC08L060.html; ComponentLink3Description: MTC24 Package Page; ComponentLink3URL: http://www.national.com/packaging/folders/mtc24.html
footprint MTC24_N (TSOP, 24-Leads, Body 7.8x4.4mm, Pitch 0.65mm, IPC Medium Density)
footprint MTC24_L (TSOP, 24-Leads, Body 7.8x4.4mm, Pitch 0.65mm, IPC High Density)
footprint MTC24_M (TSOP, 24-Leads, Body 7.8x4.4mm, Pitch 0.65mm, IPC Low Density)
pins: 1 VA (power), 2 AGND (power), 3 VRT (in), 4 VA (power), 5 AGND (power), 6 VIN (in), 7 VIN GND (power), 8 AGND (power), 9 VRM (in), 10 VRB (in), 11 AGND (power), 12 VA (power), 13 D7 (out), 14 D6 (out), 15 D5 (out), 16 D4 (out), 17 DR GND (power), 18 VDR (power), 19 D3 (out), 20 D2 (out), 21 D1 (out), 22 D0 (out), 23 PD (in), 24 CLK (in)

## ADC10D020CIVS
designator U?
Dual 10-Bit, 20MSPS, 150mW A/D Converter; PartNumber: ADC10D020CIVS; Manufacturer: National Semiconductor; CompType: ADC IC; PackageTopMarking: NSUZXYTT*10D020*CIVS; PowerWise: N; Published: 4-Dec-2008; DatasheetVersion: Sep-2001; PackageVersion: revA, Apr-2000; PackageReference: VBC48A; Publisher: Altium Limited; PackageDescription: TQFP, Jedec Metric, 7 x 7 x 1mm, 48 Lead, 0.5mm Pitch; RoHS: O; PinCount: 48; DigiKeyPartNumber: ADC10D020CIVS-ND; Code_JEDEC: MS-026-ABC; ComponentLink1Description: ADC10D020 Datasheet; ComponentLink1URL: http://www.national.com/ds/AD/ADC10D020.pdf; ComponentLink2Description: ADC10D020 Web Page; ComponentLink2URL: http://www.national.com/pf/AD/ADC10D020.html; ComponentLink3Description: VBC48A Package Page; ComponentLink3URL: http://www.national.com/packaging/folders/vbc48a.html
footprint VBC48A_N (Thin QFP, 48-Leads, Body 7x7mm, Pitch 0.5mm, IPC Medium Density)
footprint VBC48A_L (Thin QFP, 48-Leads, Body 7x7mm, Pitch 0.5mm, IPC High Density)
footprint VBC48A_M (Thin QFP, 48-Leads, Body 7x7mm, Pitch 0.5mm, IPC Low Density)
pins: 1 VREF (power), 2 OS (in), 3 AGND (power), 4 VD (power), 5 DGND (power), 6 VDR (power), 7 DRGND (power), 8 I9 (out), 9 I8 (out), 10 I7 (out), 11 I6 (out), 12 I5 (out), 13 I4 (out), 14 I3 (out), 15 I2 (out), 16 I1 (out), 17 I0 (out), 18 Q9 (out), 19 Q8 (out), 20 Q7 (out), 21 Q6 (out), 22 Q5 (out), 23 Q4 (out), 24 Q3 (out), 25 Q2 (out), 26 Q1 (out), 27 Q0 (out), 28 I/~{Q} (out), 29 DRGND (power), 30 VDR (power), 31 OC (in), 32 OF (in), 33 CLK (in), 34 STBY (in), 35 PD (in), 36 GAIN (in), 37 Q+ (in), 38 Q- (in), 39 AGND (power), 40 VA (power), 41 VA (power), 42 AGND (power), 43 VRP, 44 VRN, 45 VCMO (out), 46 AGND (power), 47 I- (in), 48 I+ (in)

## ADC10D040CIVS
designator U?
Dual 10-Bit, 40 MSPS, 267 mW A/D Converter; PartNumber: ADC10D040CIVS; Manufacturer: National Semiconductor; CompType: ADC IC; PackageTopMarking: NSUZXYTT*10D040*CIVS; PowerWise: N; Published: 4-Dec-2008; DatasheetVersion: Jan-2002; PackageVersion: revA, Apr-2000; PackageReference: VBC48A; Publisher: Altium Limited; PackageDescription: TQFP, Jedec Metric, 7 x 7 x 1mm, 48 Lead, 0.5mm Pitch; RoHS: Y; PinCount: 48; DigiKeyPartNumber: ADC10D040CIVS-ND; Code_JEDEC: MS-026-ABC; ComponentLink1Description: ADC10D040 Datasheet; ComponentLink1URL: http://www.national.com/ds/AD/ADC10D040.pdf; ComponentLink2Description: ADC10D040 Web Page; ComponentLink2URL: http://www.national.com/pf/AD/ADC10D040.html; ComponentLink3Description: VBC48A Package Page; ComponentLink3URL: http://www.national.com/packaging/folders/vbc48a.html
footprint VBC48A_N (Thin QFP, 48-Leads, Body 7x7mm, Pitch 0.5mm, IPC Medium Density)
footprint VBC48A_L (Thin QFP, 48-Leads, Body 7x7mm, Pitch 0.5mm, IPC High Density)
footprint VBC48A_M (Thin QFP, 48-Leads, Body 7x7mm, Pitch 0.5mm, IPC Low Density)
pins: 1 VREF (power), 2 OS (in), 3 AGND (power), 4 VD (power), 5 DGND (power), 6 VDR (power), 7 DRGND (power), 8 I9 (out), 9 I8 (out), 10 I7 (out), 11 I6 (out), 12 I5 (out), 13 I4 (out), 14 I3 (out), 15 I2 (out), 16 I1 (out), 17 I0 (out), 18 Q9 (out), 19 Q8 (out), 20 Q7 (out), 21 Q6 (out), 22 Q5 (out), 23 Q4 (out), 24 Q3 (out), 25 Q2 (out), 26 Q1 (out), 27 Q0 (out), 28 I/~{Q} (out), 29 DRGND (power), 30 VDR (power), 31 OC (in), 32 OF (in), 33 CLK (in), 34 STBY (in), 35 PD (in), 36 GAIN (in), 37 Q+ (in), 38 Q- (in), 39 AGND (power), 40 VA (power), 41 VA (power), 42 AGND (power), 43 VRP, 44 VRN, 45 VCMO (out), 46 AGND (power), 47 I- (in), 48 I+ (in)

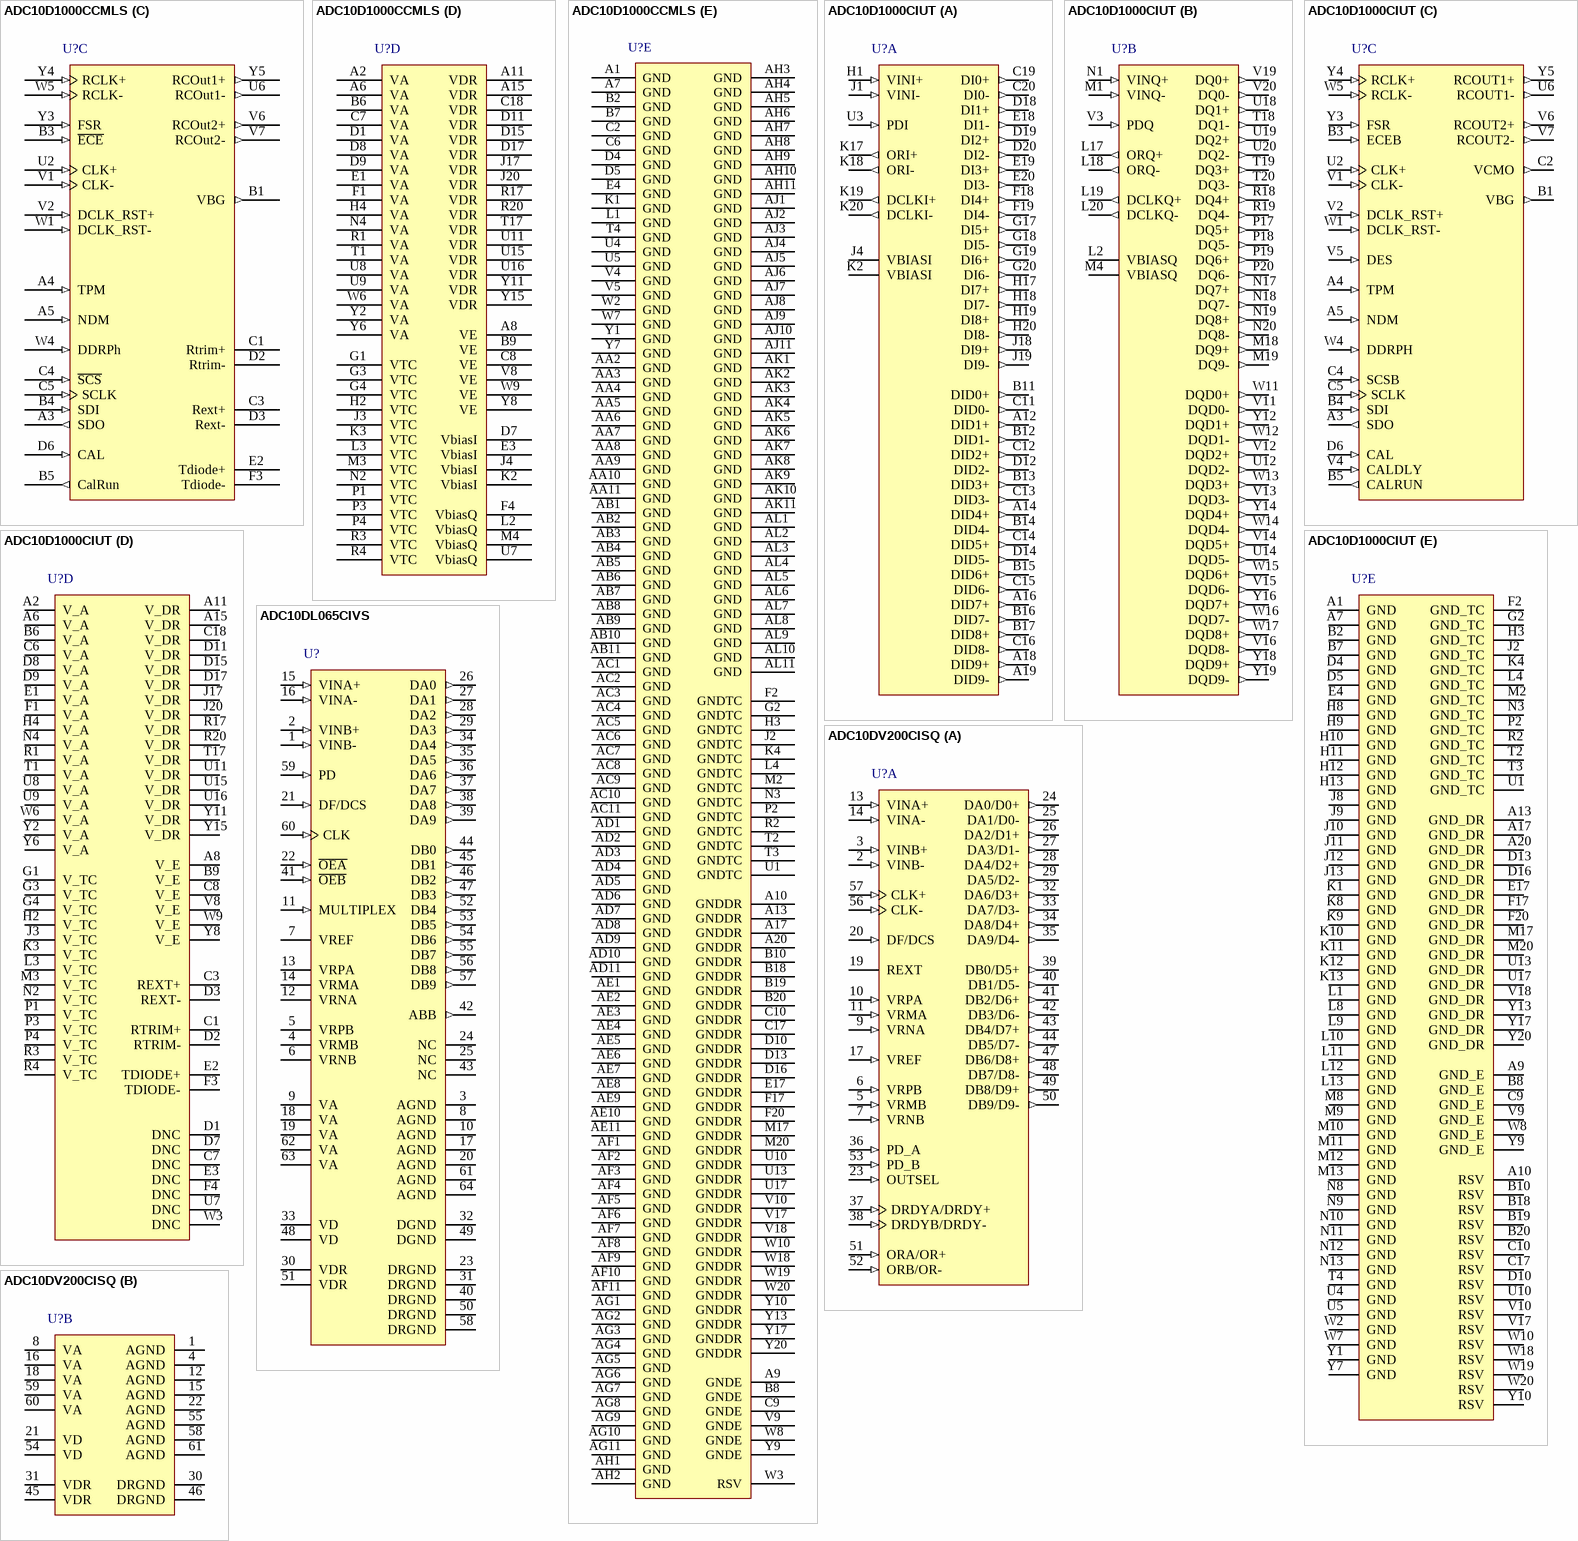
[diagram p4: symbols ADC10D1000CCMLS to ADC10DV200CISQ]

## ADC10D1000CCMLS
designator U?
Low Power, 10-Bit, Dual 1.0 GSPS or Single 2.0 GSPS A/D Converter; PartNumber: ADC10D1000CCMLS; Manufacturer: National Semiconductor; CompType: ADC IC; PackageTopMarking: NSZSSXXYYA*ADC10D1000CC*MLS; PowerWise: Y; MilaeroCode: EXX; Published: 29-May-2009; DatasheetVersion: Apr-2009; PackageVersion: revB, Mar-2008; PackageReference: CCC376A; Publisher: Altium Limited; PackageDescription: CCGA, 27.94 x 27.94mm, 376 Lead, 1mm & 1.27mm Pitch; RoHS: N; PinCount: 376; ComponentLink1Description: ADC10D1000 Datasheet; ComponentLink1URL: http://www.national.com/ds/AD/ADC10D1000QML.pdf; ComponentLink2Description: ADC10D1000 Web Page; ComponentLink2URL: http://www.national.com/pf/AD/ADC10D1000.html; ComponentLink3Description: CCC376A Package Page; ComponentLink3URL: http://www.national.com/packaging/folders/ccc376a.html
footprint CCC376A (CGA, 376-Leads, Body 27.9x27.9mm, Pitch 1.27 & 1.0mm, NSC Recommended Pads)
part A pins: A12 DId1+ (out), A14 DId4+ (out), A16 DId7+ (out), A18 DId9+ (out), A19 DId9- (out), B11 DId0+ (out), B12 DId1- (out), B13 DId3+ (out), B14 DId4- (out), B15 DId6+ (out), B16 DId7- (out), B17 DId8+ (out), C11 DId0- (out), C12 DId2+ (out), C13 DId3- (out), C14 DId5+ (out), C15 DId6- (out), C16 DId8- (out), C19 DI0+ (out), C20 DI0- (out), D12 DId2- (out), D14 DId5- (out), D18 DI1+ (out), D19 DI2+ (out), D20 DI2- (out), E18 DI1- (out), E19 DI3+ (out), E20 DI3- (out), F18 DI4+ (out), F19 DI4- (out), G17 DI5+ (out), G18 DI5- (out), G19 DI6+ (out), G20 DI6- (out), H1 VinI+ (in), H17 DI7+ (out), H18 DI7- (out), H19 DI8+ (out), H20 DI8- (out), J1 VinI- (in), J18 DI9+ (out), J19 DI9- (out), K17 ORI+ (out), K18 ORI- (out), K19 DCLKI+ (out), K20 DCLKI- (out), U3 PDI (in)
part B pins: L17 ORQ+ (out), L18 ORQ- (out), L19 DCLKQ+ (out), L20 DCLKQ- (out), M1 VinQ- (in), M18 DQ9+ (out), M19 DQ9- (out), N1 VinQ+ (in), N17 DQ7+ (out), N18 DQ7- (out), N19 DQ8+ (out), N20 DQ8- (out), P17 DQ5+ (out), P18 DQ5- (out), P19 DQ6+ (out), P20 DQ6- (out), R18 DQ4+ (out), R19 DQ4- (out), T18 DQ1- (out), T19 DQ3+ (out), T20 DQ3- (out), U12 DQd2- (out), U14 DQd5- (out), U18 DQ1+ (out), U19 DQ2+ (out), U20 DQ2- (out), V3 PDQ (in), V11 DQd0- (out), V12 DQd2+ (out), V13 DQd3- (out), V14 DQd5+ (out), V15 DQd6- (out), V16 DQd8- (out), V19 DQ0+ (out), V20 DQ0- (out), W11 DQd0+ (out), W12 DQd1- (out), W13 DQd3+ (out), W14 DQd4- (out), W15 DQd6+ (out), W16 DQd7- (out), W17 DQd8+ (out), Y12 DQd1+ (out), Y14 DQd4+ (out), Y16 DQd7+ (out), Y18 DQd9+ (out), Y19 DQd9- (out)
part C pins: A3 SDO (out), A4 TPM (in), A5 NDM (in), B1 VBG (out), B3 ~{ECE} (in), B4 SDI (in), B5 CalRun (out), C1 Rtrim+, C3 Rext+, C4 ~{SCS} (in), C5 SCLK (in), D2 Rtrim-, D3 Rext-, D6 CAL (in), E2 Tdiode+, F3 Tdiode-, U2 CLK+ (in), U6 RCOut1- (out), V1 CLK- (in), V2 DCLK_RST+ (in), V6 RCOut2+ (out), V7 RCOut2- (out), W1 DCLK_RST- (in), W4 DDRPh (in), W5 RCLK- (in), Y3 FSR (in), Y4 RCLK+ (in), Y5 RCOut1+ (out)
part D pins: A2 VA (power), A6 VA (power), A8 VE (power), A11 VDR (power), A15 VDR (power), B6 VA (power), B9 VE (power), C7 VA (power), C8 VE (power), C18 VDR (power), D1 VA (power), D7 VbiasI, D8 VA (power), D9 VA (power), D11 VDR (power), D15 VDR (power), D17 VDR (power), E1 VA (power), E3 VbiasI, F1 VA (power), F4 VbiasQ, G1 VTC (power), G3 VTC (power), G4 VTC (power), H2 VTC (power), H4 VA (power), J3 VTC (power), J4 VbiasI, J17 VDR (power), J20 VDR (power), K2 VbiasI, K3 VTC (power), L2 VbiasQ, L3 VTC (power), M3 VTC (power), M4 VbiasQ, N2 VTC (power), N4 VA (power), P1 VTC (power), P3 VTC (power), P4 VTC (power), R1 VA (power), R3 VTC (power), R4 VTC (power), R17 VDR (power), R20 VDR (power), T1 VA (power), T17 VDR (power), U7 VbiasQ, U8 VA (power), U9 VA (power), U11 VDR (power), U15 VDR (power), U16 VDR (power), V8 VE (power), W6 VA (power), W9 VE (power), Y2 VA (power), Y6 VA (power), Y8 VE (power), Y11 VDR (power), Y15 VDR (power)
part E pins: A1 GND (power), A7 GND (power), A9 GNDE (power), A10 GNDDR (power), A13 GNDDR (power), A17 GNDDR (power), A20 GNDDR (power), AA2 GND (power), AA3 GND (power), AA4 GND (power), AA5 GND (power), AA6 GND (power), AA7 GND (power), AA8 GND (power), AA9 GND (power), AA10 GND (power), AA11 GND (power), AB1 GND (power), AB2 GND (power), AB3 GND (power), AB4 GND (power), AB5 GND (power), AB6 GND (power), AB7 GND (power), AB8 GND (power), AB9 GND (power), AB10 GND (power), AB11 GND (power), AC1 GND (power), AC2 GND (power), AC3 GND (power), AC4 GND (power), AC5 GND (power), AC6 GND (power), AC7 GND (power), AC8 GND (power), AC9 GND (power), AC10 GND (power), AC11 GND (power), AD1 GND (power), AD2 GND (power), AD3 GND (power), AD4 GND (power), AD5 GND (power), AD6 GND (power), AD7 GND (power), AD8 GND (power), AD9 GND (power), AD10 GND (power), AD11 GND (power), AE1 GND (power), AE2 GND (power), AE3 GND (power), AE4 GND (power), AE5 GND (power), AE6 GND (power), AE7 GND (power), AE8 GND (power), AE9 GND (power), AE10 GND (power), AE11 GND (power), AF1 GND (power), AF2 GND (power), AF3 GND (power), AF4 GND (power), AF5 GND (power), AF6 GND (power), AF7 GND (power), AF8 GND (power), AF9 GND (power), AF10 GND (power), AF11 GND (power), AG1 GND (power), AG2 GND (power), AG3 GND (power), AG4 GND (power), AG5 GND (power), AG6 GND (power), AG7 GND (power), AG8 GND (power), AG9 GND (power), AG10 GND (power), AG11 GND (power), AH1 GND (power), AH2 GND (power), AH3 GND (power), AH4 GND (power), AH5 GND (power), AH6 GND (power), AH7 GND (power), AH8 GND (power), AH9 GND (power), AH10 GND (power), AH11 GND (power), AJ1 GND (power), AJ2 GND (power), AJ3 GND (power), AJ4 GND (power), AJ5 GND (power), AJ6 GND (power), AJ7 GND (power), AJ8 GND (power), AJ9 GND (power), AJ10 GND (power), AJ11 GND (power), AK1 GND (power), AK2 GND (power), AK3 GND (power), AK4 GND (power), AK5 GND (power), AK6 GND (power), AK7 GND (power), AK8 GND (power), AK9 GND (power), AK10 GND (power), AK11 GND (power), AL1 GND (power), AL2 GND (power), AL3 GND (power), AL4 GND (power), AL5 GND (power), AL6 GND (power), AL7 GND (power), AL8 GND (power), AL9 GND (power), AL10 GND (power), AL11 GND (power), B2 GND (power), B7 GND (power), B8 GNDE (power), B10 GNDDR (power), B18 GNDDR (power), B19 GNDDR (power), B20 GNDDR (power), C2 GND (power), C6 GND (power), C9 GNDE (power), C10 GNDDR (power), C17 GNDDR (power), D4 GND (power), D5 GND (power), D10 GNDDR (power), D13 GNDDR (power), D16 GNDDR (power), E4 GND (power), E17 GNDDR (power), F2 GNDTC (power), F17 GNDDR (power), F20 GNDDR (power), G2 GNDTC (power), H3 GNDTC (power), J2 GNDTC (power), K1 GND (power), K4 GNDTC (power), L1 GND (power), L4 GNDTC (power), M2 GNDTC (power), M17 GNDDR (power), M20 GNDDR (power), N3 GNDTC (power), P2 GNDTC (power), R2 GNDTC (power), T2 GNDTC (power), T3 GNDTC (power), T4 GND (power), U1 GNDTC (power), U4 GND (power), U5 GND (power), U10 GNDDR (power), U13 GNDDR (power), U17 GNDDR (power), V4 GND (power), V5 GND (power), V9 GNDE (power), V10 GNDDR (power), V17 GNDDR (power), V18 GNDDR (power), W2 GND (power), W3 RSV, W7 GND (power), W8 GNDE (power), W10 GNDDR (power), W18 GNDDR (power), W19 GNDDR (power), W20 GNDDR (power), Y1 GND (power), Y7 GND (power), Y9 GNDE (power), Y10 GNDDR (power), Y13 GNDDR (power), Y17 GNDDR (power), Y20 GNDDR (power)